# Altium footprint library XT30UPB-M.PcbLib: 1 footprints
Each footprint in its own frame and in the unit in brackets; x right, y up, seen from the top. Pads: shape width x height; smd on the part's side, far side on the other; paste and mask are expansions set on the pad; w line width, h text height; cw(c..) or ccw(c..) is an arc to the next point about the centre after c.
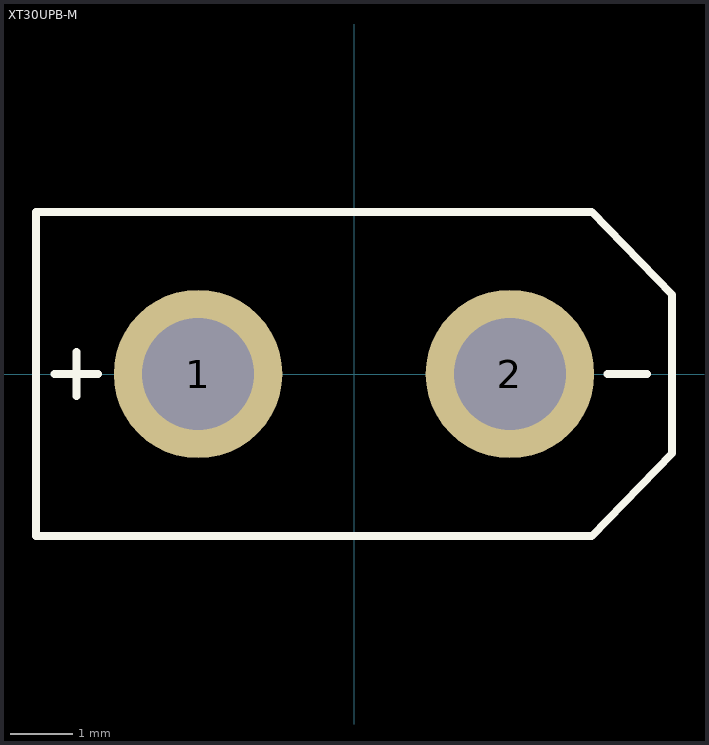
[diagram p0: the footprint, top view; thin cyan lines are the x and y axes]

## XT30UPB-M [mm]
pads (2):
  round 2.7 hole 1.8: 1(-2.5,0) 2(2.5,0)
Top Overlay:
  lines w0.127: -4.8,0 -4.1,0 ; -4.445,-0.35 -4.445,0.35 ; 4.064,0 4.699,0 ; -5.1,-2.6 -5.1,2.6 3.81,2.6 5.1,1.27 5.1,-1.27 3.81,-2.6 -5.1,-2.6
3D body "Amass_XT30UPB-M.step": height 10.7, standoff -2, extent -5.075,-2.609 5.125,2.591